# EAGLE library part ME-VNH2SP30 (library moduleMe)
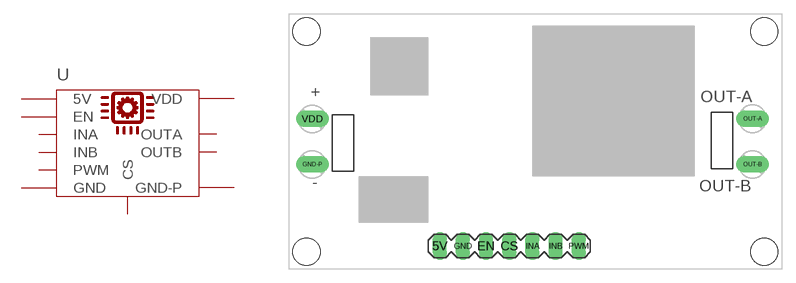
[diagram p0: symbol with the pads of ME-VNH2SP30; footprint ME-VNH2SP30]

Designator prefix -

## ME-VNH2SP30B  [ME-VNH2SP30]
5V  5V  pwr
CS  CS  out
EN  EN  in
GND  GND  pwr
GND-P  GND-P  pwr
INA  INA  in
INB  INB  in
OUT-A  OUTA  out
OUT-B  OUTB  out
PWM  PWM  in
VDD  VDD  pwr

## Footprint ME-VNH2SP30 (pad centres in mm)
ModuleMe VNH2SP30 Module can be found: https://www.ebay.ie/itm/30A-Mini-VNH2SP30-Stepper-Motor-Driver-Monster-Moto-Shield-Module-For-Arduino/153278157176?hash=item23b0171178:g:o00AAOSw1uVb-7h~
drill 1.016 long: 5V -7.62,-11.43; CS 0,-11.43; EN -2.54,-11.43; GND -5.08,-11.43; INA 2.54,-11.43; INB 5.08,-11.43; PWM 7.62,-11.43
drill 1.194 long: GND-P -21.59,-2.5; OUT-A 26.67,2.5; OUT-B 26.67,-2.5; VDD -21.59,2.5
hole 3 at -22.225,-12.065
hole 3 at -22.225,12.065
hole 3 at 27.94,12.065
hole 3 at 27.94,-12.065